# Altium schematic symbol library B4B-PH-K.SchLib: 1 symbol
Pins are listed as number, name and electrical type; pins without a type are passive.

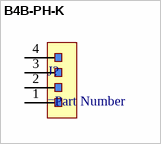
[diagram p0: symbol B4B-PH-K]

## B4B-PH-K
designator J?
=Description
pins: 1, 2, 3, 4